# Altium schematic symbol library ANtene_symbol.SchLib: 1 symbol
Pins are listed as number, name and electrical type; pins without a type are passive.

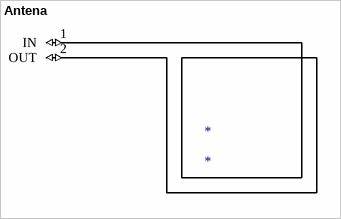
[diagram p0: symbol Antena]

## Antena
designator *
footprint Antena2
pins: 1 IN (io), 2 OUT (io)